# Altium footprint library TRX-101_161.PcbLib: 12 footprints
Each footprint in its own frame and in the unit in brackets; x right, y up, seen from the top. Pads: shape width x height; smd on the part's side, far side on the other; paste and mask are expansions set on the pad; w line width, h text height; cw(c..) or ccw(c..) is an arc to the next point about the centre after c.
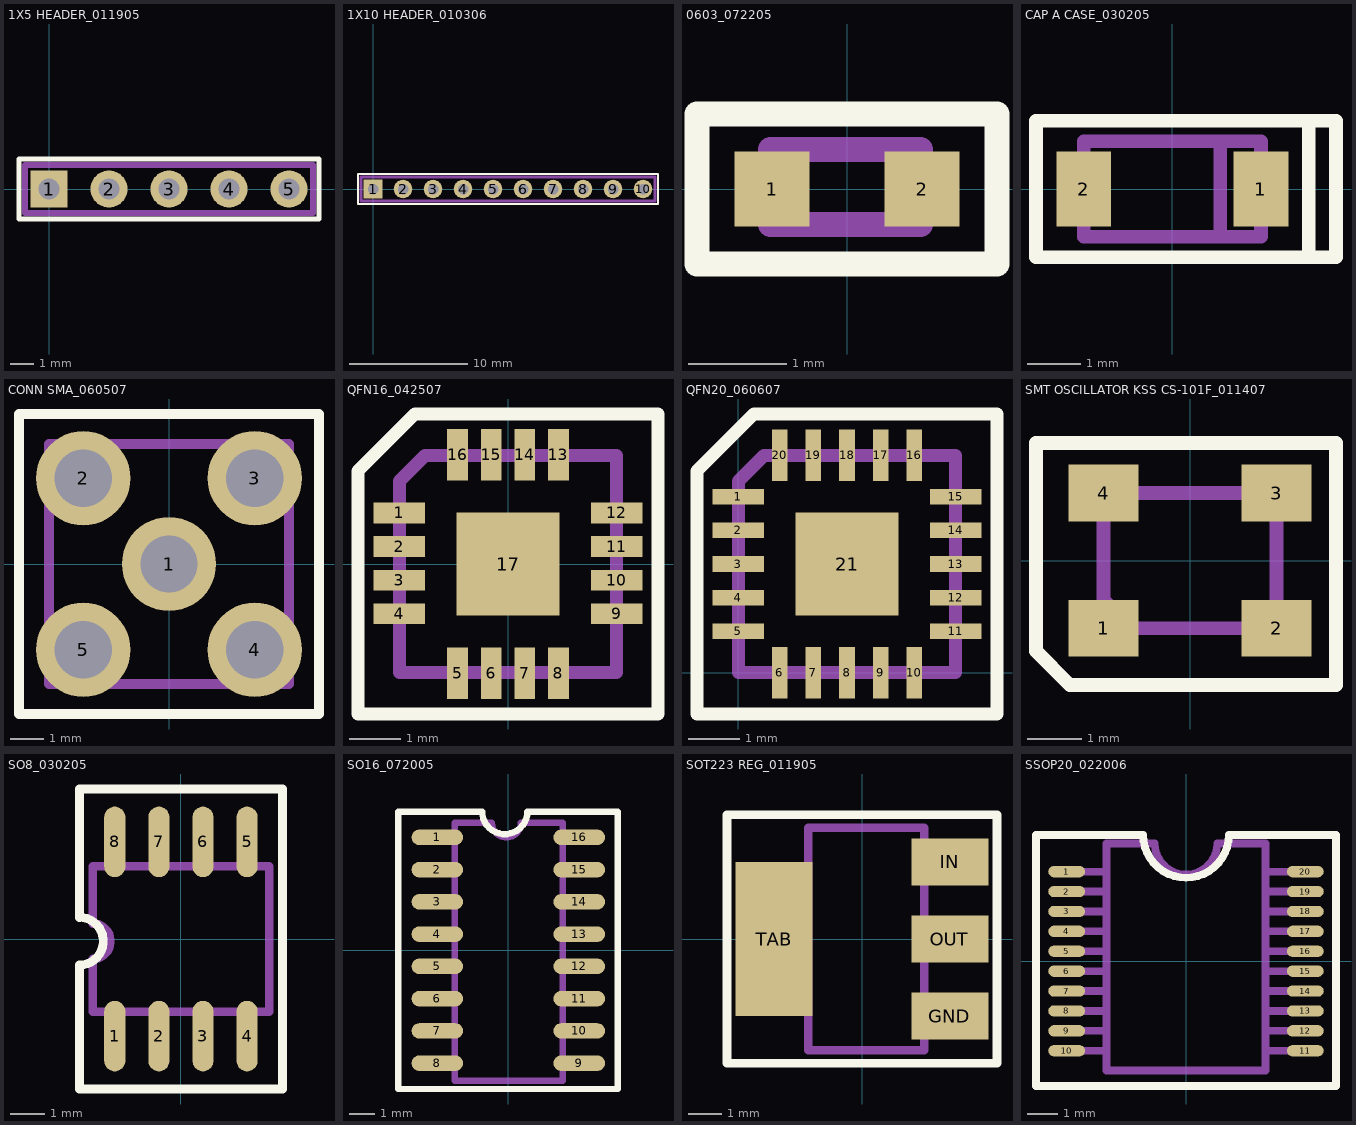
[diagram p0: the footprints below, top view; thin cyan lines are the x and y axes]

## 1X5 HEADER_011905 [mil] "TH"
height 315
pads (5):
  rect 62x62 hole 35: 1(0,0)
  round 62 hole 35: 2(100,0) 3(200,0) 4(300,0) 5(400,0)
Top Overlay:
  lines w8: -50,-50 450,-50 450,50 -50,50 -50,-50
Mechanical 1:
  lines w10: -40,-40 440,-40 440,40 -40,40 -40,-40 ; -13,-12 12,-12 12,13 -13,13 -13,-12 ; 87,-12 112,-12 112,13 87,13 87,-12 ; 187,-12 212,-12 212,13 187,13 187,-12 ; 287,-12 312,-12 312,13 287,13 287,-12 ; 387,-12 412,-12 412,13 387,13 387,-12
Mechanical 8:
  text ".Designator" at 89.57,71.85 h40
Mechanical 9:
  text ".Comment" at -32.48,-109.25 h40

## 1X10 HEADER_010306 [mil] "TH"
pads (10):
  rect 62x62 hole 35: 1(0,0)
  round 62 hole 35: 2(100,0) 3(200,0) 4(300,0) 5(400,0) 6(500,0) 7(600,0) 8(700,0) 9(800,0) 10(900,0)
Top Overlay:
  lines w8: -50,-50 950,-50 950,50 25,50 -50,50 -50,-50
Mechanical 1:
  lines w10: -40.01,-40 -40.01,40 939.99,40 939.99,-40 -40.01,-40
Mechanical 8:
  text ".Designator" at -29,54 h40
Mechanical 9:
  text ".Comment" at -43,-93 h40

## 0603_072205 [mil] "SM"
height 20
pads (2):
  rect 30x30 smd: 1(-30,0) 2(30,0)
Top Overlay:
  lines w10: -60,-30 -60,0 -60,30 60,30 60,-30 -60,-30
Mechanical 1:
  lines w10: -30.53,-14.25 29.47,-14.25 29.47,15.75 -30.53,15.75 -30.53,-14.25
Mechanical 8:
  text ".Designator" at -28.54,-13.78 h30
Mechanical 9:
  text ".Comment" at -55.12,-73.82 h40

## CAP A CASE_030205 [mil] "SMT"
height 70
pads (2):
  rect 40x55 smd: 1(65,0) 2(-65,0)
Top Overlay:
  lines w10: 100,-50 100,50 ; 100,-50 -35,-50 -100,-50 -100,50 100,50 ; 100,-50 120,-50 120,50 100,50
Mechanical 1:
  lines w10: -65,0 -65,35 ; 0,-35 -65,-35 ; 35,-35 35,35 ; -65,-35 65,-35 65,35 -65,35 ; -65,-35 -65,35
Mechanical 8:
  text ".Designator" at -20,-20 h40
Mechanical 9:
  text ".Comment" at -85,45 h40

## CONN SMA_060507 [mil] "TH"
pads (5):
  round 110 hole 67: 1(0,0) 2(-100,100) 3(100,100) 4(100,-100) 5(-100,-100)
Top Overlay:
  lines w12: -175,-175 -175,175 175,175 175,0 175,-175 -175,-175
Mechanical 1:
  lines w12: -140,-140 -140,140 140,140 140,0 140,-140 -140,-140
Mechanical 8:
  text ".Designator" at -39.37,-110.24 h40
Mechanical 9:
  text ".Comment" at -169.29,-240.16 h40

## QFN16_042507 [mm] "SMT"
height 1
pads (17):
  rect 1x0.4 smd: 1(-2.1,0.988) 2(-2.1,0.338) 3(-2.1,-0.312) 4(-2.1,-0.962) 9(2.1,-0.962) 10(2.1,-0.312) 11(2.1,0.338) 12(2.1,0.988)
  rect 0.4x1 smd: 5(-0.975,-2.112) 6(-0.325,-2.112) 7(0.325,-2.112) 8(0.975,-2.112) 13(0.975,2.113) 14(0.325,2.113) 15(-0.325,2.113) 16(-0.975,2.113)
  rect 2x2 smd: 17(0,0)
Top Overlay:
  lines w0.254: -2.9,-2.9 -2.9,0 -2.9,1.8 -1.8,2.9 0,2.9 2.9,2.9 2.9,0 2.9,-2.9 0,-2.9 -2.9,-2.9
Mechanical 1:
  lines w0.254: -2.1,-2.1 -2.1,1.6 -1.6,2.1 2.1,2.1 2.1,-2.1 0,-2.1 -2.1,-2.1
Mechanical 8:
  text ".Designator" at -0.95,-0.625 h1.02
Mechanical 9:
  text ".Comment" at -2,-4.225 h1.02

## QFN20_060607 [mm] "SMT"
height 1
pads (21):
  rect 1x0.3 smd: 1(0,3.4) 2(0,2.75) 3(0,2.1) 4(0,1.45) 5(0,0.8) 11(4.2,0.8) 12(4.2,1.45) 13(4.2,2.1) 14(4.2,2.75) 15(4.2,3.4)
  rect 0.3x1 smd: 6(0.8,0) 7(1.45,0) 8(2.1,0) 9(2.75,0) 10(3.4,0) 16(3.4,4.2) 17(2.75,4.2) 18(2.1,4.2) 19(1.45,4.2) 20(0.8,4.2)
  rect 2x2 smd: 21(2.1,2.1)
Top Overlay:
  lines w0.254: -0.8,-0.8 -0.8,2.1 -0.8,3.9 0.3,5 2.1,5 5,5 5,2.1 5,-0.8 2.1,-0.8 -0.8,-0.8
Mechanical 1:
  lines w0.203: 0,0 2.1,0
  lines w0.254: 0,0 0,3.7 0.5,4.2 4.2,4.2 4.2,0 2.1,0 0,0
Mechanical 8:
  text ".Designator" at 1.15,1.55 h1.02
Mechanical 9:
  text ".Comment" at -0.525,-2.125 h1.02

## SMT OSCILLATOR KSS CS-101F_011407 [mm] "SMT"
height 0.6
pads (4):
  rect 1.3x1.05 smd: 1(-1.6,-1.25) 2(1.6,-1.25) 3(1.6,1.25) 4(-1.6,1.25)
Top Overlay:
  lines w0.254: -2.85,-1.675 -2.225,-2.3 1.375,-2.3 2.7,-2.3 2.7,-2.175 2.7,-0.95 2.7,0 2.7,0.95 2.7,2.175 1.65,2.175 0,2.175 -1.65,2.175 -2.7,2.175 -2.85,2.175 -2.85,-1.675
Mechanical 1:
  lines w0.203: -1.6,1.25 1.6,1.25
  lines w0.254: 0,1.25 1.6,1.25 ; 1.6,1.25 1.6,-1.25 1.475,-1.25 -1.075,-1.25 -1.525,-0.8 -1.6,-0.725 -1.6,1.25 1.6,1.25
Mechanical 8:
  text ".Designator" at -0.675,-0.45 h1.02
Mechanical 9:
  text ".Comment" at -2.75,-3.65 h1.02

## SO8_030205 [mil] "SMT"
height 70
pads (8):
  oval 24x80 smd: 1(-75,-110) 2(-25,-110) 3(25,-110) 4(75,-110) 5(75,110) 6(25,110) 7(-25,110) 8(-75,110)
Top Overlay:
  lines w10: -115,-170 115,-170 115,170 -115,170 -115,24.54 cw(c-115,-2.5) -115,-29.54 -115,-170
Mechanical 1:
  lines w10: -80,-82.5 -80,-110 -70,-110 -70,-82.5 ; -80,82.5 -80,110 -70,110 -70,82.5 ; -30,-82.5 -30,-110 -20,-110 -20,-82.5 ; -30,82.5 -30,110 -20,110 -20,82.5 ; 20,-82.5 20,-110 30,-110 30,-82.5 ; 20,82.5 20,110 30,110 30,82.5 ; 70,-82.5 70,-110 80,-110 80,-82.5 ; 70,82.5 70,110 80,110 80,82.5 ; -100,-82.5 100,-82.5 100,82.5 -100,82.5 -100,17.5 cw(c-100,-2.5) -100,-22.5 -100,-82.5
Mechanical 8:
  text ".Designator" at -55,22 h40
Mechanical 9:
  text ".Comment" at -116,-192 h40

## SO16_072005 [mil] "SM"
height 70
pads (16):
  oval 80x24 smd: 1(-110,175) 2(-110,125) 3(-110,75) 4(-110,25) 5(-110,-25) 6(-110,-75) 7(-110,-125) 8(-110,-175) 9(110,-175) 10(110,-125) 11(110,-75) 12(110,-25) 13(110,25) 14(110,75) 15(110,125) 16(110,175)
Top Overlay:
  lines w10: -170.46,-215 169.54,-215 169.54,215 29.54,215 cw(c-5.46,215) -40.46,215 -170.46,215 -170.46,-215
Mechanical 1:
  lines w10: -82.96,-180 -110.46,-180 -110.46,-170 -82.96,-170 ; -82.96,-130 -110.46,-130 -110.46,-120 -82.96,-120 ; -82.96,-80 -110.46,-80 -110.46,-70 -82.96,-70 ; -82.96,-30 -110.46,-30 -110.46,-20 -82.96,-20 ; -82.96,20 -110.46,20 -110.46,30 -82.96,30 ; -82.96,70 -110.46,70 -110.46,80 -82.96,80 ; -82.96,120 -110.46,120 -110.46,130 -82.96,130 ; -82.96,170 -110.46,170 -110.46,180 -82.96,180 ; 84.54,-180 112.04,-180 112.04,-170 84.54,-170 ; 84.54,-130 112.04,-130 112.04,-120 84.54,-120 ; 84.54,-80 112.04,-80 112.04,-70 84.54,-70 ; 84.54,-30 112.04,-30 112.04,-20 84.54,-20 ; 84.54,20 112.04,20 112.04,30 84.54,30 ; 84.54,70 112.04,70 112.04,80 84.54,80 ; 84.54,120 112.04,120 112.04,130 84.54,130 ; 84.54,170 112.04,170 112.04,180 84.54,180 ; -82.96,180 -82.96,-202.5 84.54,-202.5 84.54,197.5 19.54,197.5 cw(c-2.96,197.5) -25.46,197.5 -82.96,197.5 -82.96,180
Mechanical 8:
  text ".Designator" at -47.46,-13.98 h40
Mechanical 9:
  text ".Comment" at -149.83,-262.01 h40

## SOT223 REG_011905 [mil] "SMT"
height 65
pads (4):
  rect 90x55 smd: GND(102.52,-90) IN(102.52,90) OUT(102.52,0)
  rect 90x180 smd: TAB(-102.52,0)
Top Overlay:
  lines w10: -157.5,-145 -157.5,-5 -157.5,145 157.5,145 157.5,-145 -157.5,-145
Mechanical 1:
  lines w10: 72.5,-105 127.5,-105 127.5,-90 127.5,-75 72.5,-75 ; 72.5,-15 127.5,-15 127.5,0 127.5,15 72.5,15 ; 72.5,75 127.5,75 127.5,90 127.5,105 72.5,105 ; -62.5,-55 -62.5,-130 72.5,-130 72.5,130 -62.5,130 -62.5,55 ; -62.5,-55 -62.5,55 ; -62.5,-55 -127.5,-55 -127.5,55 -62.5,55
Mechanical 8:
  text ".Designator" at -50,-20 h40
Mechanical 9:
  text ".Comment" at -140,-195 h40

## SSOP20_022006 [mm] "SMT"
height 2
pads (20):
  oval 1.2x0.37 smd: 1(-3.9,2.925) 2(-3.9,2.275) 3(-3.9,1.625) 4(-3.9,0.975) 5(-3.9,0.325) 6(-3.9,-0.325) 7(-3.9,-0.975) 8(-3.9,-1.625) 9(-3.9,-2.275) 10(-3.9,-2.925) 11(3.9,-2.925) 12(3.9,-2.275) 13(3.9,-1.625) 14(3.9,-0.975) 15(3.9,-0.325) 16(3.9,0.325) 17(3.9,0.975) 18(3.9,1.625) 19(3.9,2.275) 20(3.9,2.925)
Top Overlay:
  lines w0.254: -4.9,-4.075 4.9,-4.075 4.9,4.125 1.4,4.125 cw(c0,4.125) -1.4,4.125 -4.9,4.125 -4.9,-4.075
Mechanical 1:
  lines w0.254: -3.9,-2.925 -2.6,-2.925 ; -3.9,-2.275 -2.6,-2.275 ; -3.9,-1.625 -2.6,-1.625 ; -3.9,-0.975 -2.6,-0.975 ; -3.9,-0.325 -2.6,-0.325 ; -3.9,0.325 -2.6,0.325 ; -3.9,0.975 -2.6,0.975 ; -3.9,1.625 -2.6,1.625 ; -3.9,2.275 -2.6,2.275 ; -3.9,2.925 -2.6,2.925 ; -2.6,-1.305 -2.6,3.845 ; 2.6,-2.925 3.9,-2.925 ; 2.6,-1.625 3.9,-1.625 ; 2.6,-0.975 3.9,-0.975 ; 2.6,-0.325 3.9,-0.325 ; 2.6,0.325 3.9,0.325 ; 2.6,0.975 3.9,0.975 ; 2.6,1.625 3.9,1.625 ; 2.6,2.275 3.9,2.275 ; 2.6,2.925 3.9,2.925 ; 3.9,-2.275 2.6,-2.275 ; -2.6,-2.275 -2.6,-3.575 2.6,-3.575 2.6,-2.275 ; -2.6,-2.275 -2.6,3.845 ; -2.6,3.845 -1.02,3.845 ccw(c0,3.845) 1.02,3.845 2.6,3.845 2.6,-2.275
Mechanical 8:
  text ".Designator" at -1.1,-0.475 h1.02
Mechanical 9:
  text ".Comment" at -4.55,-5.375 h1.02